# Altium footprint library Resistor.PcbLib: 32 footprints (part 2 of 2)
Each footprint in its own frame and in the unit in brackets; x right, y up, seen from the top. Pads: shape width x height; smd on the part's side, far side on the other; paste and mask are expansions set on the pad; w line width, h text height; cw(c..) or ccw(c..) is an arc to the next point about the centre after c.
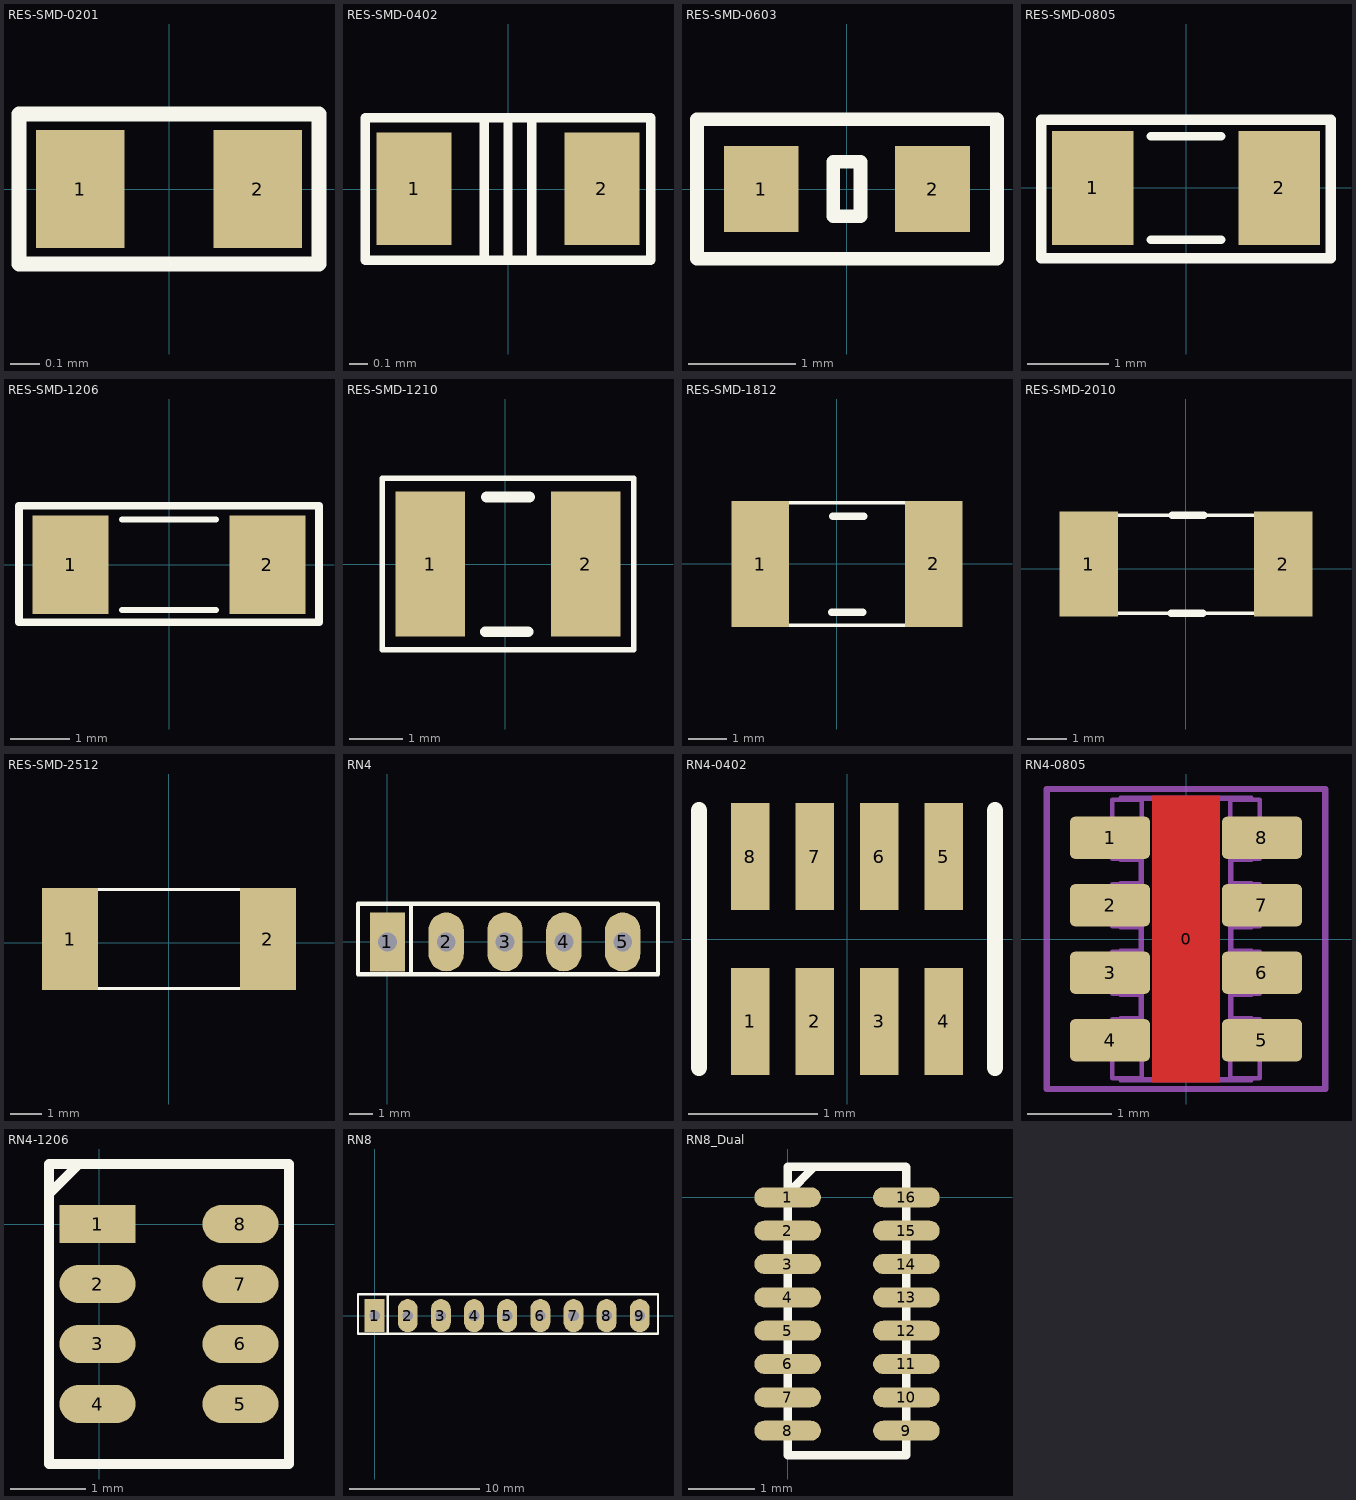
[diagram p1: the footprints below, top view; thin cyan lines are the x and y axes]

## RES-SMD-0201 [mm]
pads (2):
  rect 0.3x0.4 smd: 1(-0.3,0) 2(0.3,0)
Top Overlay:
  lines w0.05: -0.508,-0.254 0.508,-0.254 0.508,0.254 -0.508,0.254 -0.508,-0.254
3D body "User Library-SMD RESISTOR-1 (1).step": height 0.22, standoff -0.02, extent -0.3,-0.15 0.3,0.15

## RES-SMD-0402 [mm]
pads (2):
  rect 0.4x0.6 smd: 1(-0.5,0) 2(0.5,0)
Top Overlay:
  lines w0.05: -0.127,0.381 -0.127,-0.381 0,-0.381 ; 0,-0.381 0,0.381 ; 0,-0.381 0.127,-0.381 0.127,0.381 0,0.381 ; 0,0.381 0.762,0.381 0.762,-0.381 -0.762,-0.381 -0.762,0.381 0,0.381
3D body "User Library-SMD RESISTOR-1.step": height 0.35, standoff -0.01, extent -0.5,-0.25 0.5,0.25

## RES-SMD-0603 [mm]
pads (2):
  rect 0.7x0.8 smd: 1(-0.8,0) 2(0.8,0)
Top Overlay:
  lines w0.127: -1.4,-0.65 1.401,-0.65 1.401,0.651 -1.4,0.651 -1.4,-0.65 ; -0.127,-0.254 0.127,-0.254 0.127,0.254 -0.127,0.254 -0.127,-0.254
3D body "User Library-SMD RESISTOR-1 (3).step": height 0.43, standoff -0.03, extent -0.8,-0.4 0.8,0.4

## RES-SMD-0805 [mil]
pads (2):
  rect 39.37x55 smd: 1(-45,0) 2(45,0)
Top Overlay:
  lines w4: -17,-25 17,-25 ; -17,25 17,25
  lines w5: -70,-34 -70,33 70,33 70,-34 -70,-34
3D body "SW3dPS-0805 SMD Resistor.STEP": height 31.39, standoff 0.6, extent -39.36,-24.6 39.38,24.61

## RES-SMD-1206 [mil]
pads (2):
  rect 50x65 smd: 1(-65,0) 2(65,0)
Top Overlay:
  lines w4: -31,-30 31,-30 ; -31,30 31,30
  lines w5: -99,-38 99,-38 99,39 -99,39 -99,-38
3D body "1206 SMD Resistor.step": height 40.05, standoff 0.6, extent -62.99,-31.49 63,31.51

## RES-SMD-1210 [mm] "Chip Capacitor, Body 3.2x2.5mm, IPC Medium Density"
height 1.35
pads (2):
  rect 1.3x2.7 smd: 1(-1.397,0) 2(1.503,0)
Top Overlay:
  lines w0.1: -2.297,-1.6 -2.297,1.6 2.403,1.6 2.403,-1.6 -2.297,-1.6
  lines w0.2: -0.372,-1.265 0.428,-1.265 ; -0.347,1.25 0.453,1.25
3D body "User Library-SMD RESISTOR-1 (6).step": height 0.6, standoff 0, extent -1.6,-1.25 1.6,1.25

## RES-SMD-1812 [mm] "Chip Capacitor, Body 3.2x2.5mm, IPC Medium Density"
height 1.35
pads (2):
  rect 1.5x3.3 smd: 1(-1.996,0) 2(2.54,0)
Top Overlay:
  lines w0.1: -2.043,-1.6 2.54,-1.6 2.54,1.6 -2.043,1.6 -2.043,-1.6
  lines w0.2: -0.118,-1.265 0.682,-1.265 ; -0.093,1.25 0.707,1.25
3D body "User Library-SMD RESISTOR-1 (7).step": height 0.6, standoff 0, extent -1.996,-1.6 2.504,1.6

## RES-SMD-2010 [mm] "Chip Capacitor, Body 3.2x2.5mm, IPC Medium Density"
height 1.35
pads (2):
  rect 1.5x2.7 smd: 1(-2.5,0.127) 2(2.5,0.127)
Top Overlay:
  lines w0.1: -2.54,-1.138 2.5,-1.138 2.5,1.377 -2.54,1.377 -2.54,-1.138
  lines w0.2: -0.372,-1.138 0.428,-1.138 ; -0.347,1.377 0.453,1.377
3D body "User Library-SMD RESISTOR-1 (8).step": height 0.6, standoff 0, extent -2.5,-1.123 2.5,1.377

## RES-SMD-2512 [mm] "Chip Capacitor, Body 3.2x2.5mm, IPC Medium Density"
height 1.35
pads (2):
  rect 1.8x3.3 smd: 1(-3.2,0.127) 2(3.2,0.127)
Top Overlay:
  lines w0.1: -3.2,-1.473 3.2,-1.473 3.2,1.727 -3.2,1.727 -3.2,-1.473
3D body "User Library-SMD RESISTOR-1 (9).step": height 0.6, standoff 0, extent -3.2,-1.473 3.2,1.727

## RN4 [mil] "R SIP5, 5 Pin"
height 200
pads (5):
  rect 60x100 hole 32: 1(0,0)
  oval 60x100 hole 32: 2(100,0) 3(200,0) 4(300,0) 5(400,0)
Top Overlay:
  lines w7: 40,-55 40,65 ; -50,-55 460,-55 460,65 -50,65 -50,-55
3D body "SW3dPS-Resistor Networks-1.STEP": height 219.29, standoff -115.35, extent -42.91,-20 842.92,29.21

## RN4-0402 [mm] "Resistor network 4 x 1005 (0402)"
height 0.45
pads (8):
  rect 0.3x0.83 smd: 1(-0.75,-0.64) 2(-0.25,-0.64) 3(0.25,-0.64) 4(0.75,-0.64) 5(0.75,0.64) 6(0.25,0.64) 7(-0.25,0.64) 8(-0.75,0.64)
Top Overlay:
  lines w0.127: -1.15,-1 -1.15,1 ; 1.15,-1 1.15,1
3D body: height 0.1, standoff 0, extent 0.675,0.363 0.825,0.813
3D body: height 0.1, standoff 0, extent 0.175,0.363 0.325,0.813
3D body: height 0.1, standoff 0, extent -0.325,0.363 -0.175,0.813
3D body: height 0.1, standoff 0, extent -0.825,0.363 -0.675,0.813
3D body: height 0.1, standoff 0, extent 0.675,-0.837 0.825,-0.387
3D body: height 0.1, standoff 0, extent -0.825,-0.837 -0.675,-0.387
3D body: height 0.1, standoff 0, extent 0.175,-0.837 0.325,-0.387
3D body: height 0.1, standoff 0, extent -0.325,-0.837 -0.175,-0.387
3D body: height 0.4, standoff 0, extent -0.925,-0.402 1.037,0.373

## RN4-0805 [mm]
pads (9):
  round 0.254 on Mech15: 0(0,0)
  rrect25% 0.95x0.5 smd: 1(-0.9,1.2) 2(-0.9,0.4) 3(-0.9,-0.4) 4(-0.9,-1.2) 5(0.9,-1.2) 6(0.9,-0.4) 7(0.9,0.4) 8(0.9,1.2)
Top Layer:
  pour cut-out: -0.4,1.7 0.4,1.7 0.4,-1.7 -0.4,-1.7
Top Solder:
  region: 1.3,1.2 0.5,1.2 0.5,-1.2 1.3,-1.2
  rectangle: -1.3,-1.2 -0.5,1.2
Mechanical 13:
  lines w0.05: -0.775,-1.65 -0.775,-1.675 0.775,-1.675 0.775,-1.65 ; -0.775,-0.95 -0.775,-0.938 -0.537,-0.938 -0.537,-0.663 -0.775,-0.663 -0.775,-0.65 ; -0.775,-0.15 -0.775,-0.138 -0.537,-0.138 -0.537,0.138 -0.775,0.138 -0.775,0.15 ; -0.775,0.65 -0.775,0.663 -0.537,0.663 -0.537,0.938 -0.775,0.938 -0.775,0.95 ; -0.775,1.65 -0.775,1.675 0.775,1.675 0.775,1.65 ; -0.525,-1.65 -0.875,-1.65 -0.875,-0.95 -0.525,-0.95 ; -0.525,-0.65 -0.875,-0.65 -0.875,-0.15 -0.525,-0.15 ; -0.525,0.15 -0.875,0.15 -0.875,0.65 -0.525,0.65 ; -0.525,0.95 -0.875,0.95 -0.875,1.65 -0.525,1.65 ; 0.525,-1.65 0.875,-1.65 0.875,-0.95 0.525,-0.95 ; 0.525,-0.65 0.875,-0.65 0.875,-0.15 0.525,-0.15 ; 0.525,0.15 0.875,0.15 0.875,0.65 0.525,0.65 ; 0.525,0.95 0.875,0.95 0.875,1.65 0.525,1.65 ; 0.775,-0.95 0.775,-0.938 0.537,-0.938 0.537,-0.663 0.775,-0.663 0.775,-0.65 ; 0.775,-0.15 0.775,-0.138 0.537,-0.138 0.537,0.138 0.775,0.138 0.775,0.15 ; 0.775,0.65 0.775,0.663 0.537,0.663 0.537,0.938 0.775,0.938 0.775,0.95 ; -0.525,-1.663 -0.525,1.663 0.525,1.663 0.525,-1.663 -0.525,-1.663
Mechanical 15:
  lines w0.076: -1.651,-1.778 -1.651,1.778 1.651,1.778 1.651,-1.778 -1.651,-1.778
3D body "RESCAXS50P32X16X70-8N.STEP": height 0.7, standoff 0, extent -0.875,-1.675 0.875,1.675

## RN4-1206 [mil]
pads (8):
  rect 40x20 smd: 1(-1,0)
  oval 40x20 smd: 2(-1,-31.5) 3(-1,-62.99) 4(-1,-94.49) 5(73.99,-94.49) 6(73.99,-62.99) 7(73.99,-31.5) 8(73.99,0)
Top Overlay:
  lines w5: -26.5,19 -26.5,15.75 ; -26.5,23 -26.5,15.75 ; -18,31.5 -10,31.5 -10.75,31.5 -26.5,15.75 ; -14,31.5 -17,31.5 -26.5,31.5 ; -26.5,15.75 -26.5,31.5 ; -26.5,15.75 -26.5,-125.98 99.49,-125.98 99.49,31.5 -26.5,31.5 ; -26.5,15.75 -26.5,31.5
3D body: height 26, standoff 0, extent 75.99,-8 79.99,8
3D body: height 26, standoff 0, extent 75.99,-39.5 79.99,-23.5
3D body: height 26, standoff 0, extent 75.99,-70.99 79.99,-54.99
3D body: height 26, standoff 0, extent 75.99,-102.49 79.99,-86.49
3D body: height 26, standoff 0, extent -6,-103 -2,-87
3D body: height 26, standoff 0, extent -6,-71 -2,-55
3D body: height 26, standoff 0, extent -6,-39 -2,-23
3D body: height 26, standoff 25, extent -2,-7 76,6
3D body: height 26, standoff 0, extent -6,-8 -2,8
3D body: height 25, standoff 0, extent -5,-113 78.24,20
3D body: height 26, standoff 25, extent -2,-39 76,-24
3D body: height 26, standoff 25, extent -2,-70 76,-56
3D body: height 26, standoff 25, extent -2,-102 76,-87
3D body: height 26, standoff 25, extent 3,-15 70,13
3D body: height 26, standoff 25, extent 3,-47 70,-19
3D body: height 26, standoff 25, extent 3,-78 70,-50
3D body: height 26, standoff 25, extent 3,-110 70,-82

## RN8 [mil] "R SIP8, 9 Pin"
height 200
pads (9):
  rect 60x100 hole 32: 1(0,0)
  oval 60x100 hole 32: 2(100,0) 3(200,0) 4(300,0) 5(400,0) 6(500,0) 7(600,0) 8(700,0) 9(800,0)
Top Overlay:
  lines w7: 40,-55 40,65 ; -50,-55 -50,65 855,65 855,-55 -50,-55
3D body "SW3dPS-Resistor Networks-1.STEP": height 219.29, standoff -115.35, extent -42.91,-20 842.92,29.21

## RN8_Dual [mm] "1206"
pads (16):
  oval 1x0.3 smd: 1(0,0) 2(0,-0.5) 3(0,-1) 4(0,-1.5) 5(0,-2) 6(0,-2.5) 7(0,-3) 8(0,-3.5) 9(1.781,-3.5) 10(1.781,-3) 11(1.781,-2.5) 12(1.781,-2) 13(1.781,-1.5) 14(1.781,-1) 15(1.781,-0.5) 16(1.781,0)
Top Overlay:
  lines w0.127: 0.221,0.461 0.424,0.461 0.405,0.461 0.005,0.061 ; 0.322,0.461 0.246,0.461 0.005,0.461 ; 0.005,0.061 0.005,0.461 ; 0.005,0.061 0.005,-3.869 1.782,-3.869 1.782,0.453 1.774,0.461 0.005,0.461 ; 0.005,0.061 0.005,0.461
3D body: height 0.64, standoff 0, extent -0.114,-3.607 1.867,-3.404
3D body: height 0.64, standoff 0, extent -0.114,-3.111 1.867,-2.908
3D body: height 0.64, standoff 0, extent -0.102,-2.603 1.88,-2.4
3D body: height 0.64, standoff 0, extent -0.089,-2.108 1.892,-1.905
3D body: height 0.64, standoff 0, extent -0.089,-1.6 1.892,-1.397
3D body: height 0.64, standoff 0, extent -0.102,-1.105 1.88,-0.902
3D body: height 0.64, standoff 0, extent -0.102,-0.61 1.88,-0.406
3D body: height 0.64, standoff 0, extent -0.102,-0.102 1.88,0.102
3D body: height 0.64, standoff 0, extent 0,-3.873 1.778,0.457
3D body: height 0.66, standoff 0, extent 1.879,-0.127 1.981,0.127
3D body: height 0.66, standoff 0.64, extent -0.102,-0.076 1.88,0.076
3D body: height 0.66, standoff 0, extent -0.203,-0.127 -0.102,0.127
3D body: height 0.66, standoff 0.64, extent 0.025,-0.127 1.727,0.127
3D body: height 0.66, standoff 0.64, extent 0.025,-0.635 1.727,-0.381
3D body: height 0.66, standoff 0, extent -0.203,-0.635 -0.102,-0.381
3D body: height 0.66, standoff 0.64, extent -0.102,-0.584 1.88,-0.432
3D body: height 0.66, standoff 0, extent 1.879,-0.635 1.981,-0.381
3D body: height 0.66, standoff 0.64, extent 0.025,-1.13 1.727,-0.876
3D body: height 0.66, standoff 0, extent -0.203,-1.13 -0.102,-0.876
3D body: height 0.66, standoff 0.64, extent -0.102,-1.079 1.88,-0.927
3D body: height 0.66, standoff 0, extent 1.879,-1.13 1.981,-0.876
3D body: height 0.66, standoff 0.64, extent 0.038,-1.626 1.74,-1.372
3D body: height 0.66, standoff 0, extent -0.191,-1.626 -0.089,-1.372
3D body: height 0.66, standoff 0.64, extent -0.089,-1.575 1.892,-1.422
3D body: height 0.66, standoff 0, extent 1.892,-1.626 1.994,-1.372
3D body: height 0.66, standoff 0.64, extent 0.038,-2.134 1.74,-1.88
3D body: height 0.66, standoff 0, extent -0.191,-2.134 -0.089,-1.88
3D body: height 0.66, standoff 0.64, extent -0.089,-2.083 1.892,-1.93
3D body: height 0.66, standoff 0, extent 1.892,-2.134 1.994,-1.88
3D body: height 0.66, standoff 0.64, extent 0.025,-2.629 1.727,-2.375
3D body: height 0.66, standoff 0, extent -0.203,-2.629 -0.102,-2.375
3D body: height 0.66, standoff 0.64, extent -0.102,-2.578 1.88,-2.426
3D body: height 0.66, standoff 0, extent 1.879,-2.629 1.981,-2.375
3D body: height 0.66, standoff 0.64, extent 0.013,-3.137 1.714,-2.883
3D body: height 0.66, standoff 0, extent -0.216,-3.137 -0.114,-2.883
3D body: height 0.66, standoff 0.64, extent -0.114,-3.086 1.867,-2.934
3D body: height 0.66, standoff 0, extent 1.867,-3.137 1.968,-2.883
3D body: height 0.66, standoff 0.64, extent 0.013,-3.632 1.714,-3.378
3D body: height 0.66, standoff 0, extent -0.216,-3.632 -0.114,-3.378
3D body: height 0.66, standoff 0.64, extent -0.114,-3.581 1.867,-3.429
3D body: height 0.66, standoff 0, extent 1.867,-3.632 1.968,-3.378

## RN-52 [mil]
3D body "User Library-RN52.STEP": height 0.39, standoff -107.09, extent -202.28,-262.01 330,762.01